# Altium footprint library PLA22116_.PcbLib: 8 footprints
Each footprint in its own frame and in the unit in brackets; x right, y up, seen from the top. Pads: shape width x height; smd on the part's side, far side on the other; paste and mask are expansions set on the pad; w line width, h text height; cw(c..) or ccw(c..) is an arc to the next point about the centre after c.
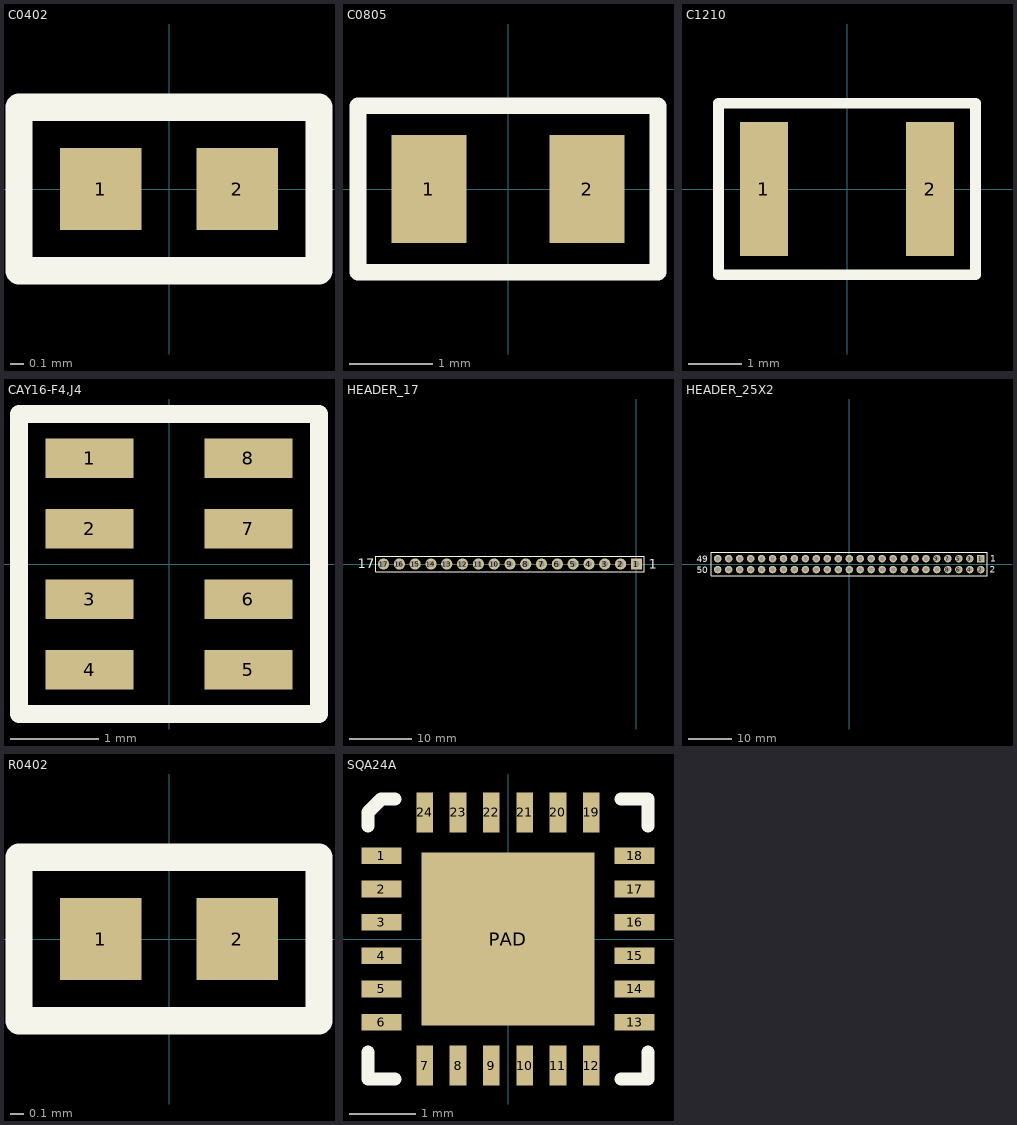
[diagram p0: the footprints below, top view; thin cyan lines are the x and y axes]

## C0402 [mm]
pads (2):
  rect 0.6x0.6 smd: 1(-0.5,0) 2(0.5,0)
Top Overlay:
  lines w0.2: -1.1,-0.6 -1.1,0.6 1.1,0.6 1.1,-0.6 -1.1,-0.6
3D body "CL05B103KB5NNNC.step": height 0.51, standoff 0.01, extent -0.5,-0.275 0.5,0.275

## C0805 [mm]
pads (2):
  rect 0.9x1.3 smd: 1(-0.95,0) 2(0.95,0)
Top Overlay:
  lines w0.2: -1.8,-1 1.8,-1 1.8,1 -1.8,1 -1.8,-1
3D body "C2012X5R1V106K085AC.step": height 1.01, standoff 0.01, extent -1,-0.625 1,0.625

## C1210 [mm]
pads (2):
  rect 0.9x2.5 smd: 1(-1.55,0) 2(1.55,0)
Top Overlay:
  lines w0.2: -2.4,-1.6 2.4,-1.6 2.4,1.6 -2.4,1.6 -2.4,-1.6

## CAY16-F4,J4 [mm]
pads (8):
  rect 1x0.45 smd mask+0.051: 1(-0.9,1.2) 2(-0.9,0.4) 3(-0.9,-0.4) 4(-0.9,-1.2) 5(0.9,-1.2) 6(0.9,-0.4) 7(0.9,0.4) 8(0.9,1.2)
Top Overlay:
  lines w0.2: -1.7,-1.7 -1.7,1.7 1.7,1.7 1.7,-1.7 -1.7,-1.7
Top Solder:
  region: -1.45,1.475 -0.35,1.475 -0.35,-1.475 -1.45,-1.475
  region: 0.35,1.475 1.45,1.475 1.45,-1.475 0.35,-1.475
3D body "CAY16-49R9F4LF.step": height 0.61, standoff 0.01, extent -0.8,-1.6 0.8,1.6

## HEADER_17 [mm]
pads (17):
  rect 1.8x1.8 hole 1: 1(0,0)
  round 1.8 hole 1: 2(-2.54,0) 3(-5.08,0) 4(-7.62,0) 5(-10.16,0) 6(-12.7,0) 7(-15.24,0) 8(-17.78,0) 9(-20.32,0) 10(-22.86,0) 11(-25.4,0) 12(-27.94,0) 13(-30.48,0) 14(-33.02,0) 15(-35.56,0) 16(-38.1,0) 17(-40.64,0)
Top Overlay:
  lines w0.2: -41.91,-1.27 -41.91,1.27 1.27,1.27 1.27,-1.27 -41.91,-1.27
  text "1" at 1.954,-0.746 h1.52
  text "17" at -44.746,-0.646 h1.52
3D body "User Library-Header_Male_RA_Low_8Pin.STEP": height 2.51, standoff -3, extent -41.91,-0.32 -21.59,9.81
3D body "User Library-Header_Male_RA_Low_8Pin.STEP": height 2.51, standoff -3, extent -19.05,-0.32 1.27,9.81
3D body "User Library-Header_Male_RA_Low_1Pin.STEP": height 2.51, standoff -3, extent -21.59,-0.32 -19.05,9.81

## HEADER_25X2 [mm]
pads (50):
  rect 1.75x1.75 hole 1: 1(30.48,1.27)
  round 1.75 hole 1: 2(30.48,-1.27) 3(27.94,1.27) 4(27.94,-1.27) 5(25.4,1.27) 6(25.4,-1.27) 7(22.86,1.27) 8(22.86,-1.27) 9(20.32,1.27) 10(20.32,-1.27) 11(17.78,1.27) 12(17.78,-1.27) 13(15.24,1.27) 14(15.24,-1.27) 15(12.7,1.27) 16(12.7,-1.27) 17(10.16,1.27) 18(10.16,-1.27) 19(7.62,1.27) 20(7.62,-1.27) 21(5.08,1.27) 22(5.08,-1.27) 23(2.54,1.27) 24(2.54,-1.27) 25(0,1.27) 26(0,-1.27) 27(-2.54,1.27) 28(-2.54,-1.27) 29(-5.08,1.27) 30(-5.08,-1.27) 31(-7.62,1.27) 32(-7.62,-1.27) 33(-10.16,1.27) 34(-10.16,-1.27) 35(-12.7,1.27) 36(-12.7,-1.27) 37(-15.24,1.27) 38(-15.24,-1.27) 39(-17.78,1.27) 40(-17.78,-1.27) 41(-20.32,1.27) 42(-20.32,-1.27) 43(-22.86,1.27) 44(-22.86,-1.27) 45(-25.4,1.27) 46(-25.4,-1.27) 47(-27.94,1.27) 48(-27.94,-1.27) 49(-30.48,1.27) 50(-30.48,-1.27)
Top Overlay:
  lines w0.2: -32.02,-2.73 31.98,-2.73 31.98,2.77 -32.02,2.77 -32.02,-2.73
  text "50" at -35.286,-2.076 h1.52
  text "49" at -35.286,0.424 h1.52
  text "2" at 32.614,-1.976 h1.52
  text "1" at 32.714,0.524 h1.52
3D body "XG4C_5031.step": height 9.01, standoff -3.19, extent -35.41,-4.4 35.41,4.1

## R0402 [mm]
pads (2):
  rect 0.6x0.6 smd: 1(-0.5,0) 2(0.5,0)
Top Overlay:
  lines w0.2: -1.1,-0.6 1.1,-0.6 1.1,0.6 -1.1,0.6 -1.1,-0.6
3D body "User Library-CR1005-0402.step": height 0.36, standoff 0.01, extent -0.5,-0.25 0.5,0.25

## SQA24A [mm]
pads (25):
  rect 0.6x0.25 smd mask+0.051: 1(-1.9,1.25) 2(-1.9,0.75) 3(-1.9,0.25) 4(-1.9,-0.25) 5(-1.9,-0.75) 6(-1.9,-1.25) 13(1.9,-1.25) 14(1.9,-0.75) 15(1.9,-0.25) 16(1.9,0.25) 17(1.9,0.75) 18(1.9,1.25)
  rect 0.25x0.6 smd mask+0.051: 7(-1.25,-1.9) 8(-0.75,-1.9) 9(-0.25,-1.9) 10(0.25,-1.9) 11(0.75,-1.9) 12(1.25,-1.9) 19(1.25,1.9) 20(0.75,1.9) 21(0.25,1.9) 22(-0.25,1.9) 23(-0.75,1.9) 24(-1.25,1.9)
  rect 2.6x2.6 smd mask+0.051: PAD(0,0)
Top Overlay:
  lines w0.2: -2.1,-1.7 -2.1,-2.1 -1.7,-2.1 ; -2.1,1.7 -2.1,1.9 -1.9,2.1 -1.7,2.1 ; 1.7,-2.1 2.1,-2.1 2.1,-1.7 ; 1.7,2.1 2.1,2.1 2.1,1.7
Top Solder:
  region: -1.425,2.25 1.425,2.25 1.425,1.425 2.25,1.425 2.25,-1.425 1.425,-1.425 1.425,-2.25 -1.425,-2.25 -1.425,-1.425 -2.25,-1.425 -2.25,1.425 -1.425,1.425
3D body "LMH7322SQ.step": height 0.81, standoff 0.01, extent -2,-2 2,2